# Altium footprint library microchip.PCBLIB: 54 footprints (part 1 of 4)
Each footprint in its own frame and in the unit in brackets; x right, y up, seen from the top. Pads: shape width x height; smd on the part's side, far side on the other; paste and mask are expansions set on the pad; w line width, h text height; cw(c..) or ccw(c..) is an arc to the next point about the centre after c.
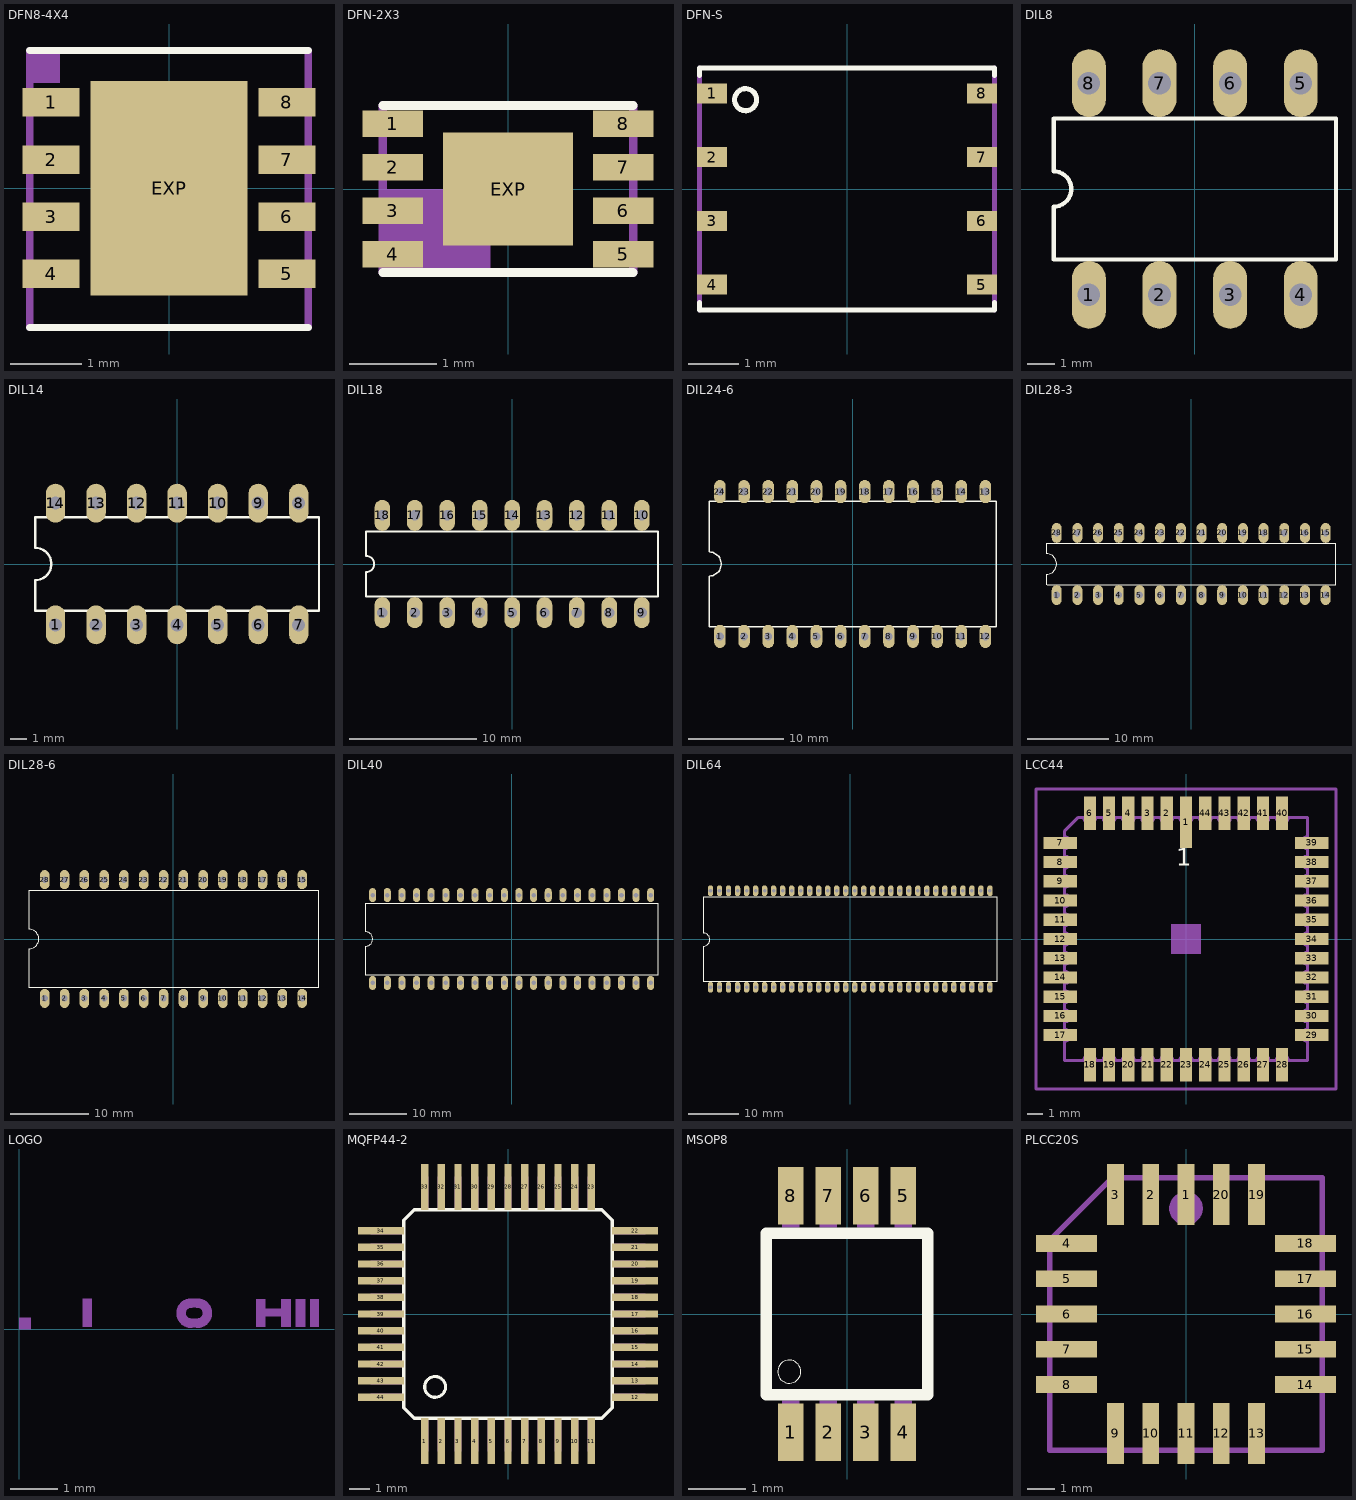
[diagram p0: the footprints below, top view; thin cyan lines are the x and y axes]

## DFN8-4X4 [mm]
pads (9):
  rect 0.8x0.4 smd: 1(-1.65,1.2) 2(-1.65,0.4) 3(-1.65,-0.4) 4(-1.65,-1.2) 5(1.65,-1.2) 6(1.65,-0.4) 7(1.65,0.4) 8(1.65,1.2)
  rect 2.2x3 smd: EXP(0,0)
Top Overlay:
  lines w0.102: -1.95,-1.95 1.95,-1.95 ; -1.95,1.925 1.95,1.925
Top Paste:
  rectangle: -2.025,1.025 -1.275,1.375
  rectangle: -2.025,0.225 -1.275,0.575
  rectangle: -2.025,-0.575 -1.275,-0.225
  rectangle: -2.025,-1.375 -1.275,-1.025
  region: 2.025,-1.025 1.275,-1.025 1.275,-1.375 2.025,-1.375
  region: 2.025,-0.225 1.275,-0.225 1.275,-0.575 2.025,-0.575
  region: 2.025,0.575 1.275,0.575 1.275,0.225 2.025,0.225
  region: 2.025,1.375 1.275,1.375 1.275,1.025 2.025,1.025
  rectangle: -0.95,-1.35 0.95,1.35
Top Solder:
  rectangle: -2.1,0.95 -1.2,1.45
  rectangle: -2.1,0.15 -1.2,0.65
  rectangle: -2.1,-0.65 -1.2,-0.15
  rectangle: -2.1,-1.45 -1.2,-0.95
  region: 2.1,-0.95 1.2,-0.95 1.2,-1.45 2.1,-1.45
  region: 2.1,-0.15 1.2,-0.15 1.2,-0.65 2.1,-0.65
  region: 2.1,0.65 1.2,0.65 1.2,0.15 2.1,0.15
  region: 2.1,1.45 1.2,1.45 1.2,0.95 2.1,0.95
  rectangle: -1.15,-1.55 1.15,1.55
Mechanical 16:
  rectangle: -1.95,1.475 -1.525,1.925
  lines w0.102: -1.95,-1.95 -1.95,1.925 ; 1.95,-1.95 1.95,1.925

## DFN-2X3 [mm]
pads (9):
  rect 0.7x0.3 smd: 1(-1.325,0.75) 2(-1.325,0.25) 3(-1.325,-0.25) 4(-1.325,-0.75) 5(1.325,-0.75) 6(1.325,-0.25) 7(1.325,0.25) 8(1.325,0.75)
  rect 1.5x1.3 smd: EXP(0,0)
Top Overlay:
  lines w0.102: -1.44,-0.96 1.44,-0.96 ; -1.44,0.96 1.44,0.96
Top Paste:
  rectangle: -1.65,0.6 -1,0.9
  rectangle: -1.65,0.1 -1,0.4
  rectangle: -1.65,-0.4 -1,-0.1
  rectangle: -1.65,-0.9 -1,-0.6
  region: 1.65,-0.6 1,-0.6 1,-0.9 1.65,-0.9
  region: 1.65,-0.1 1,-0.1 1,-0.4 1.65,-0.4
  region: 1.65,0.4 1,0.4 1,0.1 1.65,0.1
  region: 1.65,0.9 1,0.9 1,0.6 1.65,0.6
  rectangle: -0.725,-0.625 0.725,0.625
Top Solder:
  rectangle: -1.725,0.55 -0.925,0.95
  rectangle: -1.725,0.05 -0.925,0.45
  rectangle: -1.725,-0.45 -0.925,-0.05
  rectangle: -1.725,-0.95 -0.925,-0.55
  region: 1.725,-0.55 0.925,-0.55 0.925,-0.95 1.725,-0.95
  region: 1.725,-0.05 0.925,-0.05 0.925,-0.45 1.725,-0.45
  region: 1.725,0.45 0.925,0.45 0.925,0.05 1.725,0.05
  region: 1.725,0.95 0.925,0.95 0.925,0.55 1.725,0.55
  rectangle: -0.8,-0.7 0.8,0.7
Mechanical 16:
  rectangle: -1.425,-0.95 -0.2,0
  lines w0.102: -1.44,-0.96 -1.44,0.96 ; 1.44,-0.96 1.44,0.96

## DFN-S [mm]
pads (8):
  rect 0.6x0.4 smd: 1(-2.69,1.905) 2(-2.69,0.635) 3(-2.69,-0.635) 4(-2.69,-1.905) 5(2.69,-1.905) 6(2.69,-0.635) 7(2.69,0.635) 8(2.69,1.905)
Top Overlay:
  circle w0.102: c-2.02,1.78 r0.22
  lines w0.102: -2.94,-2.26 -2.94,-2.41 2.94,-2.41 2.94,-2.26 ; -2.94,2.26 -2.94,2.41 2.94,2.41 2.94,2.26
Mechanical 16:
  lines w0.102: -2.94,-2.41 -2.94,2.41 ; 2.94,-2.41 2.94,2.41

## DIL8 [mil]
pads (8):
  oval 48x96 hole 32: 1(-150,-150) 2(-50,-150) 3(50,-150) 4(150,-150) 5(150,150) 6(50,150) 7(-50,150) 8(-150,150)
Top Overlay:
  lines w6: -200,-100 -200,-25 ccw(c-200,0) -200,25 -200,100 200,100 200,-100 -200,-100

## DIL14 [mil]
pads (14):
  oval 48x96 hole 32: 1(-300,-150) 2(-200,-150) 3(-100,-150) 4(0,-150) 5(100,-150) 6(200,-150) 7(300,-150) 8(300,150) 9(200,150) 10(100,150) 11(0,150) 12(-100,150) 13(-200,150) 14(-300,150)
Top Overlay:
  lines w6: -350,-115 350,-115 350,115 -350,115 -350,40 cw(c-350,0) -350,-40 -350,-115

## DIL18 [mil]
pads (18):
  oval 48x96 hole 32: 1(-400,-150) 2(-300,-150) 3(-200,-150) 4(-100,-150) 5(0,-150) 6(100,-150) 7(200,-150) 8(300,-150) 9(400,-150) 10(400,150) 11(300,150) 12(200,150) 13(100,150) 14(0,150) 15(-100,150) 16(-200,150) 17(-300,150) 18(-400,150)
Top Overlay:
  lines w6: -450,-100 -450,-25 ccw(c-450,0) -450,25 -450,100 450,100 450,-100 -450,-100

## DIL24-6 [mil]
pads (24):
  oval 48x96 hole 32: 1(-550,-300) 2(-450,-300) 3(-350,-300) 4(-250,-300) 5(-150,-300) 6(-50,-300) 7(50,-300) 8(150,-300) 9(250,-300) 10(350,-300) 11(450,-300) 12(550,-300) 13(550,300) 14(450,300) 15(350,300) 16(250,300) 17(150,300) 18(50,300) 19(-50,300) 20(-150,300) 21(-250,300) 22(-350,300) 23(-450,300) 24(-550,300)
Top Overlay:
  lines w6: -595,-260 -595,-50 ccw(c-595,0) -595,50 -595,260 595,260 595,-260 -595,-260

## DIL28-3 [mil]
pads (28):
  oval 48x96 hole 32: 1(-650,-150) 2(-550,-150) 3(-450,-150) 4(-350,-150) 5(-250,-150) 6(-150,-150) 7(-50,-150) 8(50,-150) 9(150,-150) 10(250,-150) 11(350,-150) 12(450,-150) 13(550,-150) 14(650,-150) 15(650,150) 16(550,150) 17(450,150) 18(350,150) 19(250,150) 20(150,150) 21(50,150) 22(-50,150) 23(-150,150) 24(-250,150) 25(-350,150) 26(-450,150) 27(-550,150) 28(-650,150)
Top Overlay:
  lines w6: -700,-100 -700,-50 ccw(c-700,0) -700,50 -700,100 700,100 700,-100 -695,-100

## DIL28-6 [mil]
pads (28):
  oval 48x96 hole 32: 1(-650,-300) 2(-550,-300) 3(-450,-300) 4(-350,-300) 5(-250,-300) 6(-150,-300) 7(-50,-300) 8(50,-300) 9(150,-300) 10(250,-300) 11(350,-300) 12(450,-300) 13(550,-300) 14(650,-300) 15(650,300) 16(550,300) 17(450,300) 18(350,300) 19(250,300) 20(150,300) 21(50,300) 22(-50,300) 23(-150,300) 24(-250,300) 25(-350,300) 26(-450,300) 27(-550,300) 28(-650,300)
Top Overlay:
  lines w6: -730,-245 735,-245 735,245 -730,245 -730,50 cw(c-730,0) -730,-50 -730,-245

## DIL40 [mil]
pads (40):
  oval 48x96 hole 32: 1(-950,-300) 2(-850,-300) 3(-750,-300) 4(-650,-300) 5(-550,-300) 6(-450,-300) 7(-350,-300) 8(-250,-300) 9(-150,-300) 10(-50,-300) 11(50,-300) 12(150,-300) 13(250,-300) 14(350,-300) 15(450,-300) 16(550,-300) 17(650,-300) 18(750,-300) 19(850,-300) 20(950,-300) 21(950,300) 22(850,300) 23(750,300) 24(650,300) 25(550,300) 26(450,300) 27(350,300) 28(250,300) 29(150,300) 30(50,300) 31(-50,300) 32(-150,300) 33(-250,300) 34(-350,300) 35(-450,300) 36(-550,300) 37(-650,300) 38(-750,300) 39(-850,300) 40(-950,300)
Top Overlay:
  lines w6: -1000,-245 -1000,-50 ccw(c-1000,0) -1000,50 -1000,245 1000,245 1000,-245 -1000,-245

## DIL64 [mil]
pads (64):
  oval 42x84 hole 28: 1(-1085,-375) 2(-1015,-375) 3(-945,-375) 4(-875,-375) 5(-805,-375) 6(-735,-375) 7(-665,-375) 8(-595,-375) 9(-525,-375) 10(-455,-375) 11(-385,-375) 12(-315,-375) 13(-245,-375) 14(-175,-375) 15(-105,-375) 16(-35,-375) 17(35,-375) 18(105,-375) 19(175,-375) 20(245,-375) 21(315,-375) 22(385,-375) 23(455,-375) 24(525,-375) 25(595,-375) 26(665,-375) 27(735,-375) 28(805,-375) 29(875,-375) 30(945,-375) 31(1015,-375) 32(1085,-375) 33(1085,375) 34(1015,375) 35(945,375) 36(875,375) 37(805,375) 38(735,375) 39(665,375) 40(595,375) 41(525,375) 42(455,375) 43(385,375) 44(315,375) 45(245,375) 46(175,375) 47(105,375) 48(35,375) 49(-35,375) 50(-105,375) 51(-175,375) 52(-245,375) 53(-315,375) 54(-385,375) 55(-455,375) 56(-525,375) 57(-595,375) 58(-665,375) 59(-735,375) 60(-805,375) 61(-875,375) 62(-945,375) 63(-1015,375) 64(-1085,375)
Top Overlay:
  lines w6: -1140,-330 -1140,-55 ccw(c-1140,-5) -1140,45 -1140,330 1140,330 1140,-330 -1140,-330

## LCC44 [mil]
pads (44):
  rect 31.5x133.86 smd: 1(0,303.15)
  rect 31.5x86.61 smd: 2(-50,326.77) 3(-100,326.77) 4(-150,326.77) 5(-200,326.77) 6(-250,326.77) 18(-250,-326.77) 19(-200,-326.77) 20(-150,-326.77) 21(-100,-326.77) 22(-50,-326.77) 23(0,-326.77) 24(50,-326.77) 25(100,-326.77) 26(150,-326.77) 27(200,-326.77) 28(250,-326.77) 40(250,326.77) 41(200,326.77) 42(150,326.77) 43(100,326.77) 44(50,326.77)
  rect 86.61x31.5 smd: 7(-326.77,250) 8(-326.77,200) 9(-326.77,150) 10(-326.77,100) 11(-326.77,50) 12(-326.77,0) 13(-326.77,-50) 14(-326.77,-100) 15(-326.77,-150) 16(-326.77,-200) 17(-326.77,-250) 29(326.77,-250) 30(326.77,-200) 31(326.77,-150) 32(326.77,-100) 33(326.77,-50) 34(326.77,0) 35(326.77,50) 36(326.77,100) 37(326.77,150) 38(326.77,200) 39(326.77,250)
Top Overlay:
  text "1" at -25,175 h77.5
Mechanical 6:
  rectangle: -39.37,-39.37 39.37,39.37
Mechanical 13:
  text "IPC LCC-44" at -128.15,3.74 h49.6
Mechanical 16:
  lines w8: -316.14,-265.75 -316.14,-316.14 -265.75,-316.14 ; -316.14,-234.25 -316.14,-215.75 ; -316.14,-184.25 -316.14,-165.75 ; -316.14,-134.25 -316.14,-115.75 ; -316.14,-84.25 -316.14,-65.75 ; -316.14,-34.25 -316.14,-15.75 ; -316.14,15.75 -316.14,34.25 ; -316.14,65.75 -316.14,84.25 ; -316.14,115.75 -316.14,134.25 ; -316.14,165.75 -316.14,184.25 ; -316.14,215.75 -316.14,234.25 ; -316.14,265.75 -316.14,279.92 -279.92,316.14 -265.75,316.14 ; -316.08,-265.75 ccw(c-316.08,-250) -316.08,-234.25 ; -316.08,-215.75 ccw(c-316.08,-200) -316.08,-184.25 ; -316.08,-165.75 ccw(c-316.08,-150) -316.08,-134.25 ; -316.08,-115.75 ccw(c-316.08,-100) -316.08,-84.25 ; -316.08,-65.75 ccw(c-316.08,-50) -316.08,-34.25 ; -316.08,-15.75 ccw(c-316.08,0) -316.08,15.75 ; -316.08,34.25 ccw(c-316.08,50) -316.08,65.75 ; -316.08,84.25 ccw(c-316.08,100) -316.08,115.75 ; -316.08,134.25 ccw(c-316.08,150) -316.08,165.75 ; -316.08,184.25 ccw(c-316.08,200) -316.08,215.75 ; -316.08,234.25 ccw(c-316.08,250) -316.08,265.75 ; -265.75,-316.08 cw(c-250,-316.08) -234.25,-316.08 ; -265.75,316.08 ccw(c-250,316.08) -234.25,316.08 ; -234.25,-316.14 -215.75,-316.14 ; -234.25,316.14 -215.75,316.14 ; -215.75,-316.08 cw(c-200,-316.08) -184.25,-316.08 ; -215.75,316.08 ccw(c-200,316.08) -184.25,316.08 ; -184.25,-316.14 -165.75,-316.14 ; -184.25,316.14 -165.75,316.14 ; -165.75,-316.08 cw(c-150,-316.08) -134.25,-316.08 ; -165.75,316.08 ccw(c-150,316.08) -134.25,316.08 ; -134.25,-316.14 -115.75,-316.14 ; -134.25,316.14 -115.75,316.14 ; -115.75,-316.08 cw(c-100,-316.08) -84.25,-316.08 ; -115.75,316.08 ccw(c-100,316.08) -84.25,316.08 ; -84.25,-316.14 -65.75,-316.14 ; -84.25,316.14 -65.75,316.14 ; -65.75,-316.08 cw(c-50,-316.08) -34.25,-316.08 ; -65.75,316.08 ccw(c-50,316.08) -34.25,316.08 ; -34.25,-316.14 -15.75,-316.14 ; -34.25,316.14 -15.75,316.14 ; -15.75,-316.08 cw(c0,-316.08) 15.75,-316.08 ; -15.75,316.08 ccw(c0,316.08) 15.75,316.08 ; 15.75,-316.14 34.25,-316.14 ; 15.75,316.14 34.25,316.14 ; 34.25,-316.08 cw(c50,-316.08) 65.75,-316.08 ; 34.25,316.08 ccw(c50,316.08) 65.75,316.08 ; 65.75,-316.14 84.25,-316.14 ; 65.75,316.14 84.25,316.14 ; 84.25,-316.08 cw(c100,-316.08) 115.75,-316.08 ; 84.25,316.08 ccw(c100,316.08) 115.75,316.08 ; 115.75,-316.14 134.25,-316.14 ; 115.75,316.14 134.25,316.14 ; 134.25,-316.08 cw(c150,-316.08) 165.75,-316.08 ; 134.25,316.08 ccw(c150,316.08) 165.75,316.08 ; 165.75,-316.14 184.25,-316.14 ; 165.75,316.14 184.25,316.14 ; 184.25,-316.08 cw(c200,-316.08) 215.75,-316.08 ; 184.25,316.08 ccw(c200,316.08) 215.75,316.08 ; 215.75,-316.14 234.25,-316.14 ; 215.75,316.14 234.25,316.14 ; 234.25,-316.08 cw(c250,-316.08) 265.75,-316.08 ; 234.25,316.08 ccw(c250,316.08) 265.75,316.08 ; 265.75,-316.14 316.14,-316.14 316.14,-265.75 ; 265.75,316.14 316.14,316.14 316.14,265.75 ; 316.08,-265.75 cw(c316.08,-250) 316.08,-234.25 ; 316.08,-215.75 cw(c316.08,-200) 316.08,-184.25 ; 316.08,-165.75 cw(c316.08,-150) 316.08,-134.25 ; 316.08,-115.75 cw(c316.08,-100) 316.08,-84.25 ; 316.08,-65.75 cw(c316.08,-50) 316.08,-34.25 ; 316.08,-15.75 cw(c316.08,0) 316.08,15.75 ; 316.08,34.25 cw(c316.08,50) 316.08,65.75 ; 316.08,84.25 cw(c316.08,100) 316.08,115.75 ; 316.08,134.25 cw(c316.08,150) 316.08,165.75 ; 316.08,184.25 cw(c316.08,200) 316.08,215.75 ; 316.08,234.25 cw(c316.08,250) 316.08,265.75 ; 316.14,-234.25 316.14,-215.75 ; 316.14,-184.25 316.14,-165.75 ; 316.14,-134.25 316.14,-115.75 ; 316.14,-84.25 316.14,-65.75 ; 316.14,-34.25 316.14,-15.75 ; 316.14,15.75 316.14,34.25 ; 316.14,65.75 316.14,84.25 ; 316.14,115.75 316.14,134.25 ; 316.14,165.75 316.14,184.25 ; 316.14,215.75 316.14,234.25
Mechanical 27:
  lines w7.87: -389.88,-389.88 389.88,-389.88 389.88,389.88 -389.88,389.88 -389.88,-389.88

## LOGO [mm]
Mechanical 16:
  rectangle: 1.354,0.058 1.547,0.658
  rectangle: 5.037,0.048 5.231,0.648
  rectangle: 5.202,0.271 5.569,0.445
  rectangle: 5.559,0.049 5.772,0.648
  rectangle: 5.869,0.049 6.082,0.648
  rectangle: 6.178,0.049 6.372,0.648
  rectangle: 3.655,0.039 3.79,0.232
  rectangle: 3.655,0.464 3.79,0.658
  region: 0,0 0.254,0 0.254,0.254 0,0.254
  region: 0,0 0.254,0 0.254,0.254 0,0.254
  region: 0,0 0.254,0 0.254,0.254 0,0.254
  region: 0,0 0.254,0 0.254,0.254 0,0.254
  region: 0,0 0.254,0 0.254,0.254 0,0.254
  region: 0,0 0.254,0 0.254,0.254 0,0.254
  lines w0.203: 3.655,0.135 cw(c3.655,0.348) 3.655,0.561 ; 3.79,0.135 ccw(c3.79,0.348) 3.79,0.561

## MQFP44-2 [mm]
pads (44):
  rect 0.35x2.2 smd: 1(-4,-6.1) 2(-3.2,-6.1) 3(-2.4,-6.1) 4(-1.6,-6.1) 5(-0.8,-6.1) 6(0,-6.1) 7(0.8,-6.1) 8(1.6,-6.1) 9(2.4,-6.1) 10(3.2,-6.1) 11(4,-6.1) 23(4,6.1) 24(3.2,6.1) 25(2.4,6.1) 26(1.6,6.1) 27(0.8,6.1) 28(0,6.1) 29(-0.8,6.1) 30(-1.6,6.1) 31(-2.4,6.1) 32(-3.2,6.1) 33(-4,6.1)
  rect 2.2x0.35 smd: 12(6.1,-4) 13(6.1,-3.2) 14(6.1,-2.4) 15(6.1,-1.6) 16(6.1,-0.8) 17(6.1,0) 18(6.1,0.8) 19(6.1,1.6) 20(6.1,2.4) 21(6.1,3.2) 22(6.1,4) 34(-6.1,4) 35(-6.1,3.2) 36(-6.1,2.4) 37(-6.1,1.6) 38(-6.1,0.8) 39(-6.1,0) 40(-6.1,-0.8) 41(-6.1,-1.6) 42(-6.1,-2.4) 43(-6.1,-3.2) 44(-6.1,-4)
Top Overlay:
  circle w0.152: c-3.5,-3.5 r0.5
  lines w0.152: -5,-4.5 -4.5,-5 4.5,-5 5,-4.5 5,4.5 4.5,5 -4.5,5 -5,4.5 -5,-4.5
Mechanical 16:
  rectangle: -4.175,5 -3.825,6.6
  rectangle: -3.375,5 -3.025,6.6
  rectangle: -2.575,5 -2.225,6.6
  rectangle: -1.775,5 -1.425,6.6
  rectangle: -0.975,5 -0.625,6.6
  rectangle: -0.175,5 0.175,6.6
  rectangle: 0.625,5 0.975,6.6
  rectangle: 1.425,5 1.775,6.6
  rectangle: 2.225,5 2.575,6.6
  rectangle: 3.025,5 3.375,6.6
  rectangle: 3.825,5 4.175,6.6
  rectangle: 5,3.025 6.6,3.375
  rectangle: 5,3.825 6.6,4.175
  rectangle: 5,2.225 6.6,2.575
  rectangle: 5,1.425 6.6,1.775
  rectangle: 5,0.625 6.6,0.975
  rectangle: 5,-0.175 6.6,0.175
  rectangle: 5,-0.975 6.6,-0.625
  rectangle: 5,-1.775 6.6,-1.425
  rectangle: 5,-2.575 6.6,-2.225
  rectangle: 5,-3.375 6.6,-3.025
  rectangle: 5,-4.175 6.6,-3.825
  rectangle: 3.825,-6.6 4.175,-5
  rectangle: 3.025,-6.6 3.375,-5
  rectangle: 2.225,-6.6 2.575,-5
  rectangle: 1.425,-6.6 1.775,-5
  rectangle: 0.625,-6.6 0.975,-5
  rectangle: -0.175,-6.6 0.175,-5
  rectangle: -0.975,-6.6 -0.625,-5
  rectangle: -1.775,-6.6 -1.425,-4.975
  rectangle: -2.575,-6.6 -2.225,-5
  rectangle: -3.375,-6.6 -3.025,-5
  rectangle: -4.175,-6.6 -3.825,-5
  rectangle: -6.6,-4.175 -5,-3.825
  rectangle: -6.6,-3.375 -5,-3.025
  rectangle: -6.6,-2.575 -5,-2.225
  rectangle: -6.6,-0.975 -5,-0.625
  rectangle: -6.6,-1.775 -5,-1.425
  rectangle: -6.6,0.625 -5,0.975
  rectangle: -6.6,-0.175 -5,0.175
  rectangle: -6.6,2.225 -5,2.575
  rectangle: -6.6,1.425 -5,1.775
  rectangle: -6.6,3.825 -5,4.175
  rectangle: -6.6,3.025 -5,3.375

## MSOP8 [mm]
pads (8):
  rect 0.45x1 smd: 1(-0.975,-2.05) 2(-0.325,-2.05) 3(0.325,-2.05) 4(0.975,-2.05) 5(0.975,2.05) 6(0.325,2.05) 7(-0.325,2.05) 8(-0.975,2.05)
Top Overlay:
  circle w0: c-1,-1 r0.2
  lines w0.203: -1.4,-1.4 1.4,-1.4 1.4,1.4 -1.4,1.4 -1.4,-1.4
Top Solder:
  rectangle: -1.225,-2.6 -0.725,-1.525
  rectangle: -0.575,-2.6 -0.075,-1.525
  rectangle: 0.075,-2.6 0.575,-1.525
  rectangle: 0.725,-2.6 1.225,-1.525
  region: 1.225,2.6 0.725,2.6 0.725,1.525 1.225,1.525
  region: 0.575,2.6 0.075,2.6 0.075,1.525 0.575,1.525
  region: -0.075,2.6 -0.575,2.6 -0.575,1.525 -0.075,1.525
  region: -0.725,2.6 -1.225,2.6 -1.225,1.525 -0.725,1.525
Mechanical 16:
  rectangle: -1.125,-2.45 -0.826,-1.5
  rectangle: -0.475,-2.45 -0.175,-1.5
  rectangle: 0.175,-2.45 0.475,-1.5
  rectangle: 0.825,-2.45 1.125,-1.5
  rectangle: 0.826,1.5 1.125,2.45
  rectangle: 0.175,1.5 0.475,2.45
  rectangle: -0.475,1.5 -0.175,2.45
  rectangle: -1.125,1.5 -0.825,2.45

## PLCC20S [mm]
pads (20):
  rect 0.6x2.2 smd: 1(0,4.3) 2(-1.27,4.3) 3(-2.54,4.3) 9(-2.54,-4.3) 10(-1.27,-4.3) 11(0,-4.3) 12(1.27,-4.3) 13(2.54,-4.3) 19(2.54,4.3) 20(1.27,4.3)
  rect 2.2x0.6 smd: 4(-4.3,2.54) 5(-4.3,1.27) 6(-4.3,0) 7(-4.3,-1.27) 8(-4.3,-2.54) 14(4.3,-2.54) 15(4.3,-1.27) 16(4.3,0) 17(4.3,1.27) 18(4.3,2.54)
Mechanical 16:
  circle w0.61: c0,3.8 r0.3
  rectangle: -0.26,4.95 0.26,5.4
  rectangle: -1.53,4.95 -1.01,5.4
  rectangle: -2.8,4.95 -2.28,5.4
  rectangle: -5.4,2.28 -4.95,2.8
  rectangle: -5.4,1.01 -4.95,1.53
  rectangle: -5.4,-0.26 -4.95,0.26
  rectangle: -5.4,-1.53 -4.95,-1.01
  rectangle: -5.4,-2.8 -4.95,-2.28
  rectangle: -2.8,-5.4 -2.28,-4.95
  rectangle: -1.53,-5.4 -1.01,-4.95
  rectangle: -0.26,-5.4 0.26,-4.95
  rectangle: 1.01,-5.4 1.53,-4.95
  rectangle: 2.28,-5.4 2.8,-4.95
  rectangle: 4.95,-2.8 5.4,-2.28
  rectangle: 4.95,-1.53 5.4,-1.01
  rectangle: 4.95,-0.26 5.4,0.26
  rectangle: 4.95,1.01 5.4,1.53
  rectangle: 4.95,2.28 5.4,2.8
  rectangle: 2.28,4.95 2.8,5.4
  rectangle: 1.01,4.95 1.53,5.4
  lines w0.203: -4.9,-4.9 -4.9,2.665 -2.665,4.9 4.9,4.9 4.9,-4.9 -4.9,-4.9